# Altium integrated library SPECIAL_PASSIVES.IntLib: 1 symbol
Pins are listed as number, name and electrical type; pins without a type are passive.

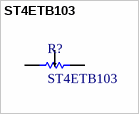
[diagram p0: symbol ST4ETB103]

## ST4ETB103
designator R?
TRIMMER 10K OHM
footprint ST4ETB103 (TRIMMER 10K OHM)
pins: 1, 2, 3